# Altium integrated library Altium_SMD_Resister.IntLib: 493 symbols (part 8 of 8)
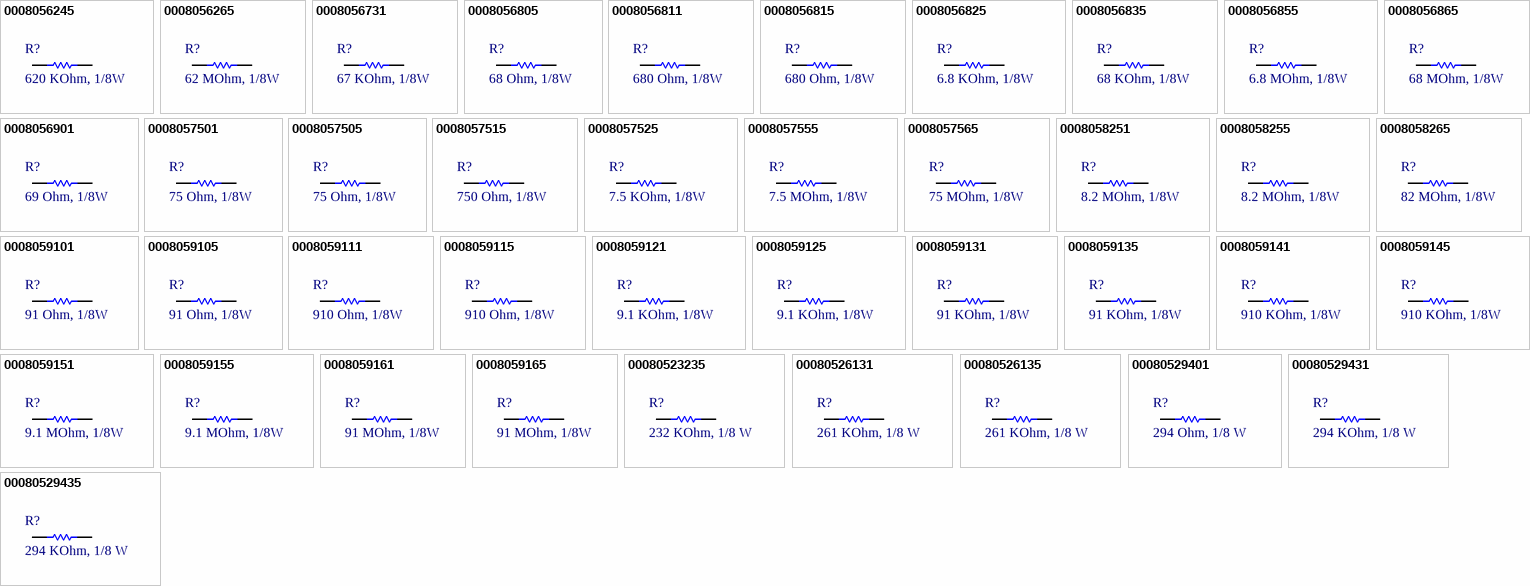
[diagram p19: symbols 0008056245 to 00080529435]

## 0008057505
designator R?, comment 75 Ohm, 1/8W
RES, size 0805, 75 Ohm, 1/8W; Resistance: 75 Ohm; Resistance Tolerance: +/-1%; Size: 0805; Rated Power: 1/8 W; Supplier 1 Name: Mouser; Supplier 1 SN: 603-RC0805JR-0775RL; Supplier 1 URL: https://www.mouser.vn/ProductDetail/YAGEO/RC0805JR-0775RL?qs=fRxXYNj8ftE7wS9ni6fn7Q%3D%3D; Supplier 2 Name: Digi-Key; Supplier 2 SN: 311-75ARTR-ND; Supplier 2 URL: https://www.digikey.com/en/products/detail/yageo/RC0805JR-0775RL/728370; Mounting Technology: SMT; Supplier 3 Name: Thegioiic; Supplier 3 SN: N/A; Supplier 3 URL: N/A; Datasheet: N/A; Manufacture  Name: N/A; Manufacture  SN: N/A; Value: 75 Ohm, 1/8W
footprint RESISTOR_0805 (Chip Resistor, 2-Leads, Body 2,00x1,20mm, IPC Medium Density)
pins: 1, 2

## 0008057515
designator R?, comment 750 Ohm, 1/8W
RES, size 0805, 750 Ohm, 1/8W; Resistance: 750 Ohm; Resistance Tolerance: +/-1%; Size: 0805; Rated Power: 1/8 W; Supplier 1 Name: Mouser; Supplier 1 SN: 603-AC0805JR-07750RL; Supplier 1 URL: https://www.mouser.vn/ProductDetail/YAGEO/AC0805JR-07750RL?qs=TI15CVqcli0njTnSkpn%2FJw%3D%3D; Supplier 2 Name: Digi-Key; Supplier 2 SN: 311-750ARTR-ND; Supplier 2 URL: https://www.digikey.com/en/products/detail/yageo/RC0805JR-07750RL/728368; Mounting Technology: SMT; Supplier 3 Name: Thegioiic; Supplier 3 SN: N/A; Supplier 3 URL: N/A; Datasheet: N/A; Manufacture  Name: N/A; Manufacture  SN: N/A; Value: 750 Ohm, 1/8W
footprint RESISTOR_0805 (Chip Resistor, 2-Leads, Body 2,00x1,20mm, IPC Medium Density)
pins: 1, 2

## 0008057525
designator R?, comment 7.5 KOhm, 1/8W
RES, size 0805, 7.5 KOhm, 1/8W; Resistance Tolerance: +/-1%; Resistance: 7.5 KOhm; Size: 0805; Rated Power: 1/8 W; Supplier 1 Name: Mouser; Supplier 1 SN: 71-CRCW08057K50JNEAC; Supplier 1 URL: https://www.mouser.vn/ProductDetail/Vishay-Dale/CRCW08057K50JNEAC?qs=E3Y5ESvWgWPPvB89PkrkFA%3D%3D; Supplier 2 Name: Digi-Key; Supplier 2 SN: 311-7.5KARTR-ND; Supplier 2 URL: https://www.digikey.com/en/products/detail/yageo/RC0805JR-077K5L/728366; Mounting Technology: SMT; Supplier 3 Name: Thegioiic; Supplier 3 SN: N/A; Supplier 3 URL: N/A; Datasheet: N/A; Manufacture  Name: N/A; Manufacture  SN: N/A; Value: 7.5 KOhm, 1/8W
footprint RESISTOR_0805 (Chip Resistor, 2-Leads, Body 2,00x1,20mm, IPC Medium Density)
pins: 1, 2

## 0008057555
designator R?, comment 7.5 MOhm, 1/8W
RES, size 0805, 7.5 MOhm, 1/8W; Resistance Tolerance: +/-1%; Resistance: 7.5 MOhm; Size: 0805; Rated Power: 1/8 W; Supplier 1 Name: Mouser; Supplier 1 SN: 71-CRCW08057M50JNEA; Supplier 1 URL: https://www.mouser.vn/ProductDetail/Vishay-Dale/CRCW08057M50JNEA?qs=3kMMNJ4TLu3zaDvEVm8fsw%3D%3D; Supplier 2 Name: Digi-Key; Supplier 2 SN: 311-7.5MARTR-ND; Supplier 2 URL: https://www.digikey.com/en/products/detail/yageo/RC0805JR-077M5L/728367; Mounting Technology: SMT; Supplier 3 Name: Thegioiic; Supplier 3 SN: N/A; Supplier 3 URL: N/A; Datasheet: N/A; Manufacture  Name: N/A; Manufacture  SN: N/A; Value: 7.5 MOhm, 1/8W
footprint RESISTOR_0805 (Chip Resistor, 2-Leads, Body 2,00x1,20mm, IPC Medium Density)
pins: 1, 2

## 0008057565
designator R?, comment 75 MOhm, 1/8W
RES, size 0805, 75 MOhm, 1/8W; Resistance: 75 MOhm; Resistance Tolerance: +/-1%; Size: 0805; Rated Power: 1/8 W; Supplier 1 Name: Mouser; Supplier 1 SN: 603-RC0805JR-0775ML; Supplier 1 URL: https://www.mouser.vn/ProductDetail/YAGEO/RC0805JR-0775ML?qs=tggtontpCXNahOr45CxKUg%3D%3D; Supplier 2 Name: Digi-Key; Supplier 2 SN: RC0805JR-0775ML-ND; Supplier 2 URL: https://www.digikey.com/en/products/detail/yageo/RC0805JR-0775ML/5919072; Mounting Technology: SMT; Supplier 3 Name: Thegioiic; Supplier 3 SN: N/A; Supplier 3 URL: N/A; Datasheet: N/A; Manufacture  Name: N/A; Manufacture  SN: N/A; Value: 75 MOhm, 1/8W
footprint RESISTOR_0805 (Chip Resistor, 2-Leads, Body 2,00x1,20mm, IPC Medium Density)
pins: 1, 2

## 0008058251
designator R?, comment 8.2 MOhm, 1/8W
RES, size 0805, 8.2 MOhm, 1/8W; Resistance Tolerance: +/-1%; Resistance: 8.2 MOhm; Size: 0805; Rated Power: 1/8 W; Supplier 1 Name: Mouser; Supplier 1 SN: N/A; Supplier 1 URL: N/A; Supplier 2 Name: Digi-Key; Supplier 2 SN: 13-RC0805FR-078M2LTR-ND; Supplier 2 URL: https://www.digikey.com/en/products/detail/yageo/RC0805FR-078M2L/5919049; Mounting Technology: SMT; Supplier 3 Name: Thegioiic; Supplier 3 SN: N/A; Supplier 3 URL: N/A; Datasheet: N/A; Manufacture  Name: N/A; Manufacture  SN: N/A; Value: 8.2 MOhm, 1/8W
footprint RESISTOR_0805 (Chip Resistor, 2-Leads, Body 2,00x1,20mm, IPC Medium Density)
pins: 1, 2

## 0008058255
designator R?, comment 8.2 MOhm, 1/8W
RES, size 0805, 8.2 MOhm, 1/8W; Resistance Tolerance: +/-1%; Resistance: 8.2 MOhm; Size: 0805; Rated Power: 1/8 W; Supplier 1 Name: Mouser; Supplier 1 SN: 652-CR0805JW-825ELF; Supplier 1 URL: https://www.mouser.vn/ProductDetail/Bourns/CR0805-JW-825ELF?qs=3wWX5hyYeeTFo4Cuu04AFA%3D%3D; Supplier 2 Name: Digi-Key; Supplier 2 SN: 311-8.2MARTR-ND; Supplier 2 URL: https://www.digikey.com/en/products/detail/yageo/RC0805JR-078M2L/728374; Mounting Technology: SMT; Supplier 3 Name: Thegioiic; Supplier 3 SN: N/A; Supplier 3 URL: N/A; Datasheet: N/A; Manufacture  Name: N/A; Manufacture  SN: N/A; Value: 8.2 MOhm, 1/8W
footprint RESISTOR_0805 (Chip Resistor, 2-Leads, Body 2,00x1,20mm, IPC Medium Density)
pins: 1, 2

## 0008058265
designator R?, comment 82 MOhm, 1/8W
RES, size 0805, 82 MOhm, 1/8W; Resistance: 82 MOhm; Resistance Tolerance: +/-1%; Size: 0805; Rated Power: 1/8 W; Supplier 1 Name: Mouser; Supplier 1 SN: 603-RC0805JR-1382ML; Supplier 1 URL: https://www.mouser.vn/ProductDetail/YAGEO/RC0805JR-1382ML?qs=k5Usg7mMyeD4ir7b8mjLXg%3D%3D; Supplier 2 Name: Digi-Key; Supplier 2 SN: 311-75ARTR-ND; Supplier 2 URL: https://www.digikey.com/en/products/detail/yageo/RC0805JR-0775RL/728370; Mounting Technology: SMT; Supplier 3 Name: Thegioiic; Supplier 3 SN: N/A; Supplier 3 URL: N/A; Datasheet: N/A; Manufacture  Name: N/A; Manufacture  SN: N/A; Value: 82 MOhm, 1/8W
footprint RESISTOR_0805 (Chip Resistor, 2-Leads, Body 2,00x1,20mm, IPC Medium Density)
pins: 1, 2

## 0008059101
designator R?, comment 91 Ohm, 1/8W
RES, size 0805, 91 Ohm, 1/8W; Resistance: 91 Ohm; Resistance Tolerance: +/-1%; Size: 0805; Rated Power: 1/8 W; Supplier 1 Name: Mouser; Supplier 1 SN: 603-RC0805FR-0791RL; Supplier 1 URL: https://www.mouser.vn/ProductDetail/YAGEO/RC0805FR-0791RL?qs=g6xwsc4j%252B%2Fp%2FT%2FNAjeTsEA%3D%3D; Supplier 2 Name: Digi-Key; Supplier 2 SN: 311-91.0CRTR-ND; Supplier 2 URL: https://www.digikey.com/en/products/detail/yageo/RC0805FR-0791RL/728201; Mounting Technology: SMT; Supplier 3 Name: Thegioiic; Supplier 3 SN: N/A; Supplier 3 URL: N/A; Datasheet: N/A; Manufacture  Name: N/A; Manufacture  SN: N/A; Value: 91 Ohm, 1/8W
footprint RESISTOR_0805 (Chip Resistor, 2-Leads, Body 2,00x1,20mm, IPC Medium Density)
pins: 1, 2

## 0008059105
designator R?, comment 91 Ohm, 1/8W
RES, size 0805, 91 Ohm, 1/8W; Resistance: 91 Ohm; Resistance Tolerance: +/-1%; Size: 0805; Rated Power: 1/8 W; Supplier 1 Name: Mouser; Supplier 1 SN: 603-RC0805JR-0791RL; Supplier 1 URL: https://www.mouser.vn/ProductDetail/YAGEO/RC0805JR-0791RL?qs=fRxXYNj8ftF6WLOxKQFHYw%3D%3D; Supplier 2 Name: Digi-Key; Supplier 2 SN: 311-91ARTR-ND; Supplier 2 URL: https://www.digikey.com/en/products/detail/yageo/RC0805JR-0791RL/728384; Mounting Technology: SMT; Supplier 3 Name: Thegioiic; Supplier 3 SN: N/A; Supplier 3 URL: N/A; Datasheet: N/A; Manufacture  Name: N/A; Manufacture  SN: N/A; Value: 91 Ohm, 1/8W
footprint RESISTOR_0805 (Chip Resistor, 2-Leads, Body 2,00x1,20mm, IPC Medium Density)
pins: 1, 2

## 0008059111
designator R?, comment 910 Ohm, 1/8W
RES, size 0805, 910 Ohm, 1/8W; Resistance: 910 Ohm; Resistance Tolerance: +/-1%; Size: 0805; Rated Power: 1/8 W; Supplier 1 Name: Mouser; Supplier 1 SN: 603-RC0805FR-07910RL; Supplier 1 URL: https://www.mouser.vn/ProductDetail/YAGEO/RC0805FR-07910RL?qs=g6xwsc4j%252B%2FoZ2NamZOKACA%3D%3D; Supplier 2 Name: Digi-Key; Supplier 2 SN: 311-910CRTR-ND; Supplier 2 URL: https://www.digikey.com/en/products/detail/yageo/RC0805FR-07910RL/728203; Mounting Technology: SMT; Supplier 3 Name: Thegioiic; Supplier 3 SN: N/A; Supplier 3 URL: N/A; Datasheet: N/A; Manufacture  Name: N/A; Manufacture  SN: N/A; Value: 910 Ohm, 1/8W
footprint RESISTOR_0805 (Chip Resistor, 2-Leads, Body 2,00x1,20mm, IPC Medium Density)
pins: 1, 2

## 0008059115
designator R?, comment 910 Ohm, 1/8W
RES, size 0805, 910 Ohm, 1/8W; Resistance: 910 Ohm; Resistance Tolerance: +/-1%; Size: 0805; Rated Power: 1/8 W; Supplier 1 Name: Mouser; Supplier 1 SN: 603-AC0805JR-07910RL; Supplier 1 URL: https://www.mouser.vn/ProductDetail/YAGEO/AC0805JR-07910RL?qs=TI15CVqcli02BUmvoruq%252BQ%3D%3D; Supplier 2 Name: Digi-Key; Supplier 2 SN: 311-910ARTR-ND; Supplier 2 URL: https://www.digikey.com/en/products/detail/yageo/RC0805JR-07910RL/728382; Mounting Technology: SMT; Supplier 3 Name: Thegioiic; Supplier 3 SN: N/A; Supplier 3 URL: N/A; Datasheet: N/A; Manufacture  Name: N/A; Manufacture  SN: N/A; Value: 910 Ohm, 1/8W
footprint RESISTOR_0805 (Chip Resistor, 2-Leads, Body 2,00x1,20mm, IPC Medium Density)
pins: 1, 2

## 0008059121
designator R?, comment 9.1 KOhm, 1/8W
RES, size 0805, 9.1 KOhm, 1/8W; Resistance Tolerance: +/-1%; Resistance: 9.1 KOhm; Size: 0805; Rated Power: 1/8 W; Supplier 1 Name: Mouser; Supplier 1 SN: 603-RC0805FR-079K1L; Supplier 1 URL: https://www.mouser.vn/ProductDetail/YAGEO/RC0805FR-079K1L?qs=g6xwsc4j%252B%2Fompd1tn2M1hA%3D%3D; Supplier 2 Name: Digi-Key; Supplier 2 SN: 311-9.10KCRTR-ND; Supplier 2 URL: https://www.digikey.com/en/products/detail/yageo/RC0805FR-079K1L/728187; Mounting Technology: SMT; Supplier 3 Name: Thegioiic; Supplier 3 SN: N/A; Supplier 3 URL: N/A; Datasheet: N/A; Manufacture  Name: N/A; Manufacture  SN: N/A; Value: 9.1 KOhm, 1/8W
footprint RESISTOR_0805 (Chip Resistor, 2-Leads, Body 2,00x1,20mm, IPC Medium Density)
pins: 1, 2

## 0008059125
designator R?, comment 9.1 KOhm, 1/8W
RES, size 0805, 9.1 KOhm, 1/8W; Resistance Tolerance: +/-1%; Resistance: 9.1 KOhm; Size: 0805; Rated Power: 1/8 W; Supplier 1 Name: Mouser; Supplier 1 SN: 603-AC0805JR-079K1L; Supplier 1 URL: https://www.mouser.vn/ProductDetail/YAGEO/AC0805JR-079K1L?qs=TI15CVqcli3%252BCLfrVXRk8g%3D%3D; Supplier 2 Name: Digi-Key; Supplier 2 SN: 311-9.1KARTR-ND; Supplier 2 URL: https://www.digikey.com/en/products/detail/yageo/RC0805JR-079K1L/728380; Mounting Technology: SMT; Supplier 3 Name: Thegioiic; Supplier 3 SN: N/A; Supplier 3 URL: N/A; Datasheet: N/A; Manufacture  Name: N/A; Manufacture  SN: N/A; Value: 9.1 KOhm, 1/8W
footprint RESISTOR_0805 (Chip Resistor, 2-Leads, Body 2,00x1,20mm, IPC Medium Density)
pins: 1, 2

## 0008059131
designator R?, comment 91 KOhm, 1/8W
RES, size 0805, 91 KOhm, 1/8W; Resistance: 91 KOhm; Resistance Tolerance: +/-1%; Size: 0805; Rated Power: 1/8 W; Supplier 1 Name: Mouser; Supplier 1 SN: 603-RC0805FR-0791KL; Supplier 1 URL: https://www.mouser.vn/ProductDetail/YAGEO/RC0805FR-0791KL?qs=cW1D1cnQQSoc5AvjL32TnA%3D%3D; Supplier 2 Name: Digi-Key; Supplier 2 SN: 311-91.0KCRTR-ND; Supplier 2 URL: https://www.digikey.com/en/products/detail/yageo/RC0805FR-0791KL/728202; Mounting Technology: SMT; Supplier 3 Name: Thegioiic; Supplier 3 SN: N/A; Supplier 3 URL: N/A; Datasheet: N/A; Manufacture  Name: N/A; Manufacture  SN: N/A; Value: 91 KOhm, 1/8W
footprint RESISTOR_0805 (Chip Resistor, 2-Leads, Body 2,00x1,20mm, IPC Medium Density)
pins: 1, 2

## 0008059135
designator R?, comment 91 KOhm, 1/8W
RES, size 0805, 91 KOhm, 1/8W; Resistance: 91 KOhm; Resistance Tolerance: +/-1%; Size: 0805; Rated Power: 1/8 W; Supplier 1 Name: Mouser; Supplier 1 SN: 603-RC0805JR-0791KL; Supplier 1 URL: https://www.mouser.vn/ProductDetail/YAGEO/RC0805JR-0791KL?qs=fRxXYNj8ftGTTnZSFO4FNg%3D%3D; Supplier 2 Name: Digi-Key; Supplier 2 SN: 311-91KARTR-ND; Supplier 2 URL: https://www.digikey.com/en/products/detail/yageo/RC0805JR-0791KL/728385; Mounting Technology: SMT; Supplier 3 Name: Thegioiic; Supplier 3 SN: N/A; Supplier 3 URL: N/A; Datasheet: N/A; Manufacture  Name: N/A; Manufacture  SN: N/A; Value: 91 KOhm, 1/8W
footprint RESISTOR_0805 (Chip Resistor, 2-Leads, Body 2,00x1,20mm, IPC Medium Density)
pins: 1, 2

## 0008059141
designator R?, comment 910 KOhm, 1/8W
RES, size 0805, 910 KOhm, 1/8W; Resistance Tolerance: +/-1%; Resistance: 910 KOhm; Size: 0805; Rated Power: 1/8 W; Supplier 1 Name: Mouser; Supplier 1 SN: 603-AC0805FR-07910KL; Supplier 1 URL: https://www.mouser.vn/ProductDetail/YAGEO/AC0805FR-07910KL?qs=yhV1fb9g%2FKZRLhn2XxrNIw%3D%3D; Supplier 2 Name: Digi-Key; Supplier 2 SN: YAG3336TR-ND; Supplier 2 URL: https://www.digikey.com/en/products/detail/yageo/RC0805FR-07910KL/5281196; Mounting Technology: SMT; Supplier 3 Name: Thegioiic; Supplier 3 SN: N/A; Supplier 3 URL: N/A; Datasheet: N/A; Manufacture  Name: N/A; Manufacture  SN: N/A; Value: 910 KOhm, 1/8W
footprint RESISTOR_0805 (Chip Resistor, 2-Leads, Body 2,00x1,20mm, IPC Medium Density)
pins: 1, 2

## 0008059145
designator R?, comment 910 KOhm, 1/8W
RES, size 0805, 910 KOhm, 1/8W; Resistance Tolerance: +/-1%; Resistance: 910 KOhm; Size: 0805; Rated Power: 1/8 W; Supplier 1 Name: Mouser; Supplier 1 SN: 603-RC0805JR-07910KL; Supplier 1 URL: https://www.mouser.vn/ProductDetail/YAGEO/RC0805JR-07910KL?qs=B2whAOG%252BauuorO0T2jryyw%3D%3D; Supplier 2 Name: Digi-Key; Supplier 2 SN: 311-910KARTR-ND; Supplier 2 URL: https://www.digikey.com/en/products/detail/yageo/RC0805JR-07910KL/728383; Mounting Technology: SMT; Supplier 3 Name: Thegioiic; Supplier 3 SN: N/A; Supplier 3 URL: N/A; Datasheet: N/A; Manufacture  Name: N/A; Manufacture  SN: N/A; Value: 910 KOhm, 1/8W
footprint RESISTOR_0805 (Chip Resistor, 2-Leads, Body 2,00x1,20mm, IPC Medium Density)
pins: 1, 2

## 0008059151
designator R?, comment 9.1 MOhm, 1/8W
RES, size 0805, 9.1 MOhm, 1/8W; Resistance Tolerance: +/-1%; Resistance: 9.1 MOhm; Size: 0805; Rated Power: 1/8 W; Supplier 1 Name: Mouser; Supplier 1 SN: 603-RC0805FR-079M1L; Supplier 1 URL: https://www.mouser.vn/ProductDetail/YAGEO/RC0805FR-079M1L?qs=g6xwsc4j%252B%2FrtXMerMKdI0g%3D%3D; Supplier 2 Name: Digi-Key; Supplier 2 SN: RHM9.10MAHTR-ND; Supplier 2 URL: https://www.digikey.com/en/products/detail/rohm-semiconductor/KTR10EZPF9104/1983679; Mounting Technology: SMT; Supplier 3 Name: Thegioiic; Supplier 3 SN: N/A; Supplier 3 URL: N/A; Datasheet: N/A; Manufacture  Name: N/A; Manufacture  SN: N/A; Value: 9.1 MOhm, 1/8W
footprint RESISTOR_0805 (Chip Resistor, 2-Leads, Body 2,00x1,20mm, IPC Medium Density)
pins: 1, 2

## 0008059155
designator R?, comment 9.1 MOhm, 1/8W
RES, size 0805, 9.1 MOhm, 1/8W; Resistance Tolerance: +/-1%; Resistance: 9.1 MOhm; Size: 0805; Rated Power: 1/8 W; Supplier 1 Name: Mouser; Supplier 1 SN: 603-RC0805JR-079M1L; Supplier 1 URL: https://www.mouser.vn/ProductDetail/YAGEO/RC0805JR-079M1L?qs=B2whAOG%252BauuKo2DW2PzpJg%3D%3D; Supplier 2 Name: Digi-Key; Supplier 2 SN: 311-9.1MARTR-ND; Supplier 2 URL: https://www.digikey.com/en/products/detail/yageo/RC0805JR-079M1L/728381; Mounting Technology: SMT; Supplier 3 Name: Thegioiic; Supplier 3 SN: N/A; Supplier 3 URL: N/A; Datasheet: N/A; Manufacture  Name: N/A; Manufacture  SN: N/A; Value: 9.1 MOhm, 1/8W
footprint RESISTOR_0805 (Chip Resistor, 2-Leads, Body 2,00x1,20mm, IPC Medium Density)
pins: 1, 2

## 0008059161
designator R?, comment 91 MOhm, 1/8W
RES, size 0805, 91 MOhm, 1/8W; Resistance: 91 MOhm; Resistance Tolerance: +/-1%; Size: 0805; Rated Power: 1/8 W; Supplier 1 Name: Mouser; Supplier 1 SN: 303-0805W8F9105T5E; Supplier 1 URL: https://www.mouser.vn/ProductDetail/Royalohm/0805W8F9105T5E?qs=e8oIoAS2J1SVpTnndLrZmw%3D%3D; Supplier 2 Name: Digi-Key; Supplier 2 SN: N/A; Supplier 2 URL: N/A; Mounting Technology: SMT; Supplier 3 Name: Thegioiic; Supplier 3 SN: N/A; Supplier 3 URL: N/A; Datasheet: N/A; Manufacture  Name: N/A; Manufacture  SN: N/A; Value: 91 MOhm, 1/8W
footprint RESISTOR_0805 (Chip Resistor, 2-Leads, Body 2,00x1,20mm, IPC Medium Density)
pins: 1, 2

## 0008059165
designator R?, comment 91 MOhm, 1/8W
RES, size 0805, 91 MOhm, 1/8W; Resistance: 91 MOhm; Resistance Tolerance: +/-1%; Size: 0805; Rated Power: 1/8 W; Supplier 1 Name: Mouser; Supplier 1 SN: 603-RC0805JR-0791ML; Supplier 1 URL: https://www.mouser.vn/ProductDetail/YAGEO/RC0805JR-0791ML?qs=tggtontpCXPIeRGuu%252Bjt0g%3D%3D; Supplier 2 Name: Digi-Key; Supplier 2 SN: RC0805JR-0791ML-ND; Supplier 2 URL: https://www.digikey.com/en/products/detail/yageo/RC0805JR-0791ML/5919074; Mounting Technology: SMT; Supplier 3 Name: Thegioiic; Supplier 3 SN: N/A; Supplier 3 URL: N/A; Datasheet: N/A; Manufacture  Name: N/A; Manufacture  SN: N/A; Value: 91 MOhm, 1/8W
footprint RESISTOR_0805 (Chip Resistor, 2-Leads, Body 2,00x1,20mm, IPC Medium Density)
pins: 1, 2

## 00080523235
designator R?, comment 232 KOhm, 1/8 W
RES, size 0805, 232 KOhm, 1/8 W; Manufacture  Name: Welwyn Components / TT Electronics; Manufacture  SN: LHVC0805-232KJT5; Resistance tolerance: +/-5%; Rated Power: 1/8 W; Size: 0805; Mounting Technology: SMT; Datasheet: https://www.ttelectronics.com/TTElectronics/media/ProductFiles/Datasheets/LHVC.pdf; Resistance: 232 KOhm; Supplier 1 Name: Mouser; Supplier 1 SN: 756-LHVC0805-232KJT5; Supplier 1 URL: https://www.mouser.vn/ProductDetail/Welwyn-Components-TT-Electronics/LHVC0805-232KJT5?qs=GY4PX5ytnAjQQPp7mjLUUQ%3D%3D; Supplier 2 Name: Digi-Key; Supplier 2 SN: N/A; Supplier 2 URL: N/A; Supplier 3 Name: Thegioiic; Supplier 3 SN: N/A; Supplier 3 URL: N/A; Value: 232 KOhm, 1/8 W
footprint RESISTOR_0805 (Chip Resistor, 2-Leads, Body 2,00x1,20mm, IPC Medium Density)
pins: 1, 2

## 00080526131
designator R?, comment 261 KOhm, 1/8 W
RES, size 0805, 261 KOhm, 1/8 W; Manufacture  Name: Bourns; Manufacture  SN: CR0805-FX-2613ELF; Resistance tolerance: +/-1%; Rated Power: 1/8 W; Size: 0805; Mounting Technology: SMT; Datasheet: https://www.mouser.vn/datasheet/2/54/cr-1858361.pdf; Resistance: 261 KOhm; Supplier 1 Name: Mouser; Supplier 1 SN: 652-CR0805FX-2613ELF; Supplier 1 URL: https://www.mouser.vn/ProductDetail/Bourns/CR0805-FX-2613ELF?qs=4vGXhLEMbUxDnPXNgaMzmw%3D%3D; Supplier 2 Name: Digi-Key; Supplier 2 SN: 118-CR0805-FX-2613ELFTR-ND - Tape & Reel (TR); Supplier 2 URL: https://www.digikey.com/en/products/detail/bourns-inc/CR0805-FX-2613ELF/3784800; Supplier 3 Name: Thegioiic; Supplier 3 SN: N/A; Supplier 3 URL: N/A; Value: 261 KOhm, 1/8 W
footprint RESISTOR_0805 (Chip Resistor, 2-Leads, Body 2,00x1,20mm, IPC Medium Density)
pins: 1, 2

## 00080526135
designator R?, comment 261 KOhm, 1/8 W
RES, size 0805, 261 KOhm, 1/8 W; Manufacture  Name: Welwyn Components / TT Electronics; Manufacture  SN: LHVC0805-261KJT5; Resistance tolerance: +/-5%; Rated Power: 1/8 W; Size: 0805; Mounting Technology: SMT; Datasheet: https://www.ttelectronics.com/TTElectronics/media/ProductFiles/Datasheets/LHVC.pdf; Resistance: 261 KOhm; Supplier 1 Name: Mouser; Supplier 1 SN: 756-LHVC0805-261KJT5; Supplier 1 URL: https://www.mouser.vn/ProductDetail/Welwyn-Components-TT-Electronics/LHVC0805-261KJT5?qs=GY4PX5ytnAhEaqCyRTPbhQ%3D%3D; Supplier 2 Name: Digi-Key; Supplier 2 SN: N/A; Supplier 2 URL: N/A; Supplier 3 Name: Thegioiic; Supplier 3 SN: N/A; Supplier 3 URL: N/A; Value: 261 KOhm, 1/8 W
footprint RESISTOR_0805 (Chip Resistor, 2-Leads, Body 2,00x1,20mm, IPC Medium Density)
pins: 1, 2

## 00080529401
designator R?, comment 294 Ohm, 1/8 W
RES, size 0805, 294 Ohm, 1/8 W; Manufacture  Name: Panasonic; Manufacture  SN: ERJ-6ENF2940V; Resistance tolerance: +/-1%; Rated Power: 1/8 W; Resistance: 294 Ohm; Size: 0805; Mounting Technology: SMT; Datasheet: https://www.mouser.vn/datasheet/2/315/AOA0000C304-1149620.pdf; Supplier 1 Name: Mouser; Supplier 1 SN: 667-ERJ-6ENF2940V; Supplier 1 URL: https://www.mouser.vn/ProductDetail/Panasonic/ERJ-6ENF2940V?qs=50QC8w71jAvukmJpZ9Lw1g%3D%3D; Supplier 2 Name: Digi-Key; Supplier 2 SN: P294CTR-ND - Tape & Reel (TR); Supplier 2 URL: https://www.digikey.com/en/products/detail/panasonic-electronic-components/ERJ-6ENF2940V/111179; Supplier 3 Name: Thegioiic; Supplier 3 SN: N/A; Supplier 3 URL: N/A; Value: 294 Ohm, 1/8 W
footprint RESISTOR_0805 (Chip Resistor, 2-Leads, Body 2,00x1,20mm, IPC Medium Density)
pins: 1, 2

## 00080529431
designator R?, comment 294 KOhm, 1/8 W
RES, size 0805, 294 KOhm, 1/8 W; Manufacture  Name: Bourns; Manufacture  SN: CR0805-FX-2943ELF; Resistance tolerance: +/-1%; Rated Power: 1/8 W; Size: 0805; Mounting Technology: SMT; Datasheet: https://www.mouser.vn/datasheet/2/54/cr-1858361.pdf; Resistance: 294 KOhm; Supplier 1 Name: Mouser; Supplier 1 SN: 652-CR0805FX-2943ELF; Supplier 1 URL: https://www.mouser.vn/ProductDetail/YAGEO/AC0805FR-07261RL?qs=UBLIud9aIG3KLDcxZj7pBg%3D%3D; Supplier 2 Name: Digi-Key; Supplier 2 SN: 118-CR0805-FX-2943ELFTR-ND - Tape & Reel (TR); Supplier 2 URL: https://www.digikey.com/en/products/detail/bourns-inc/CR0805-FX-2943ELF/3784832; Supplier 3 Name: Thegioiic; Supplier 3 SN: N/A; Supplier 3 URL: N/A; Value: 294 KOhm, 1/8 W
footprint RESISTOR_0805 (Chip Resistor, 2-Leads, Body 2,00x1,20mm, IPC Medium Density)
pins: 1, 2

## 00080529435
designator R?, comment 294 KOhm, 1/8 W
RES, size 0805, 294 KOhm, 1/8 W; Manufacture  Name: Welwyn Components / TT Electronics; Manufacture  SN: LHVC0805-294KJT5; Resistance tolerance: +/-5%; Rated Power: 1/8 W; Size: 0805; Mounting Technology: SMT; Datasheet: https://www.ttelectronics.com/TTElectronics/media/ProductFiles/Datasheets/LHVC.pdf; Resistance: 294 KOhm; Supplier 1 Name: Mouser; Supplier 1 SN: 756-LHVC0805-294KJT5; Supplier 1 URL: https://www.mouser.vn/ProductDetail/Welwyn-Components-TT-Electronics/LHVC0805-294KJT5?qs=GY4PX5ytnAjG5%252BRJuXIg7w%3D%3D; Supplier 2 Name: Digi-Key; Supplier 2 SN: N/A; Supplier 2 URL: N/A; Supplier 3 Name: Thegioiic; Supplier 3 SN: N/A; Supplier 3 URL: N/A; Value: 294 KOhm, 1/8 W
footprint RESISTOR_0805 (Chip Resistor, 2-Leads, Body 2,00x1,20mm, IPC Medium Density)
pins: 1, 2

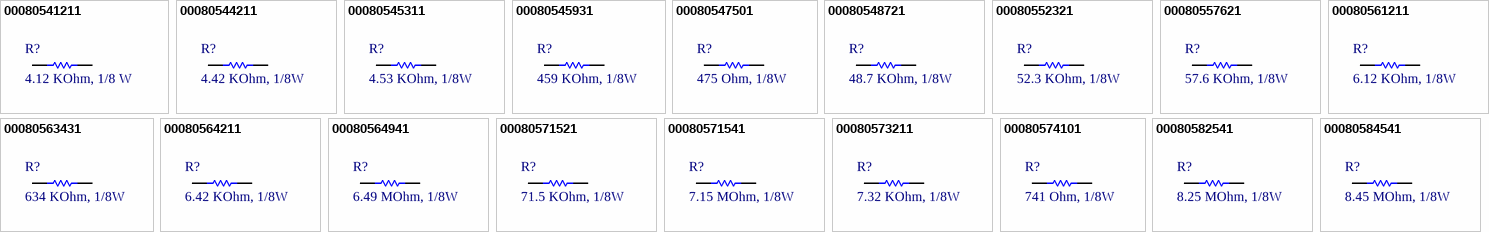
[diagram p12: symbols 00080541211 to 00080584541]

## 00080541211
designator R?, comment 4.12 KOhm, 1/8 W
RES, size 0805, 4.12 KOhm, 1/8 W; Manufacture  Name: Panasonic; Manufacture  SN: ERJ-U06F4121V; Resistance tolerance: +/-1%; Rated Power: 1/8 W; Size: 0805; Mounting Technology: SMT; Datasheet: https://www.mouser.vn/datasheet/2/315/AOA0000C334-1314047.pdf; Resistance: 4.12 KOhm; Supplier 1 Name: Mouser; Supplier 1 SN: 667-ERJ-U06F4121V; Supplier 1 URL: https://www.mouser.vn/ProductDetail/Panasonic/ERJ-U06F4121V?qs=Yyy8avaXlIsQpLxN%2Fe1aQA%3D%3D; Supplier 2 Name: Digi-Key; Supplier 2 SN: P4.12KCTR-ND - Tape & Reel (TR); Supplier 2 URL: https://www.digikey.com/en/products/detail/panasonic-electronic-components/ERJ-6ENF4121V/111401; Supplier 3 Name: Thegioiic; Supplier 3 SN: N/A; Supplier 3 URL: N/A; Value: 4.12 KOhm, 1/8 W
footprint RESISTOR_0805 (Chip Resistor, 2-Leads, Body 2,00x1,20mm, IPC Medium Density)
pins: 1, 2

## 00080544211
designator R?, comment 4.42 KOhm, 1/8W
RES, size 0805, 4.42 KOhm, 1/8W; Resistance Tolerance: +/-1%; Resistance: 4.42 KOhm; Size: 0805; Rated Power: 1/8 W; Supplier 1 Name: Mouser; Supplier 1 SN: 652-CR0805FX-4421ELF; Supplier 1 URL: https://www.mouser.vn/ProductDetail/Bourns/CR0805-FX-4421ELF?qs=sGAEpiMZZMtG0KNrPCHnjfC2zYK6Lg3%2FrXlYMryvIvo%3D; Supplier 2 Name: Digi-Key; Supplier 2 SN: 311-4.42KCRDKR-ND; Supplier 2 URL: https://www.digikey.com/en/products/detail/yageo/RC0805FR-074K42L/727920; Supplier 3 Name: Thegioiic; Supplier 3 SN: N/A; Supplier 3 URL: https://www.thegioiic.com/dien-tro-44-2-kohm-0805-1; Mounting Technology: SMT; Datasheet: N/A; Manufacture  Name: N/A; Manufacture  SN: N/A; Value: 4.42 KOhm, 1/8W
footprint RESISTOR_0805 (Chip Resistor, 2-Leads, Body 2,00x1,20mm, IPC Medium Density)
pins: 1, 2

## 00080545311
designator R?, comment 4.53 KOhm, 1/8W
RES, size 0805, 4.53 KOhm, 1/8W; Resistance Tolerance: +/-1%; Resistance: 4.53 KOhm; Size: 0805; Rated Power: 1/8 W; Supplier 1 Name: Mouser; Supplier 1 SN: 652-CR0805FX-4532ELF; Supplier 1 URL: https://www.mouser.vn/ProductDetail/Bourns/CR0805-FX-4532ELF?qs=sGAEpiMZZMtG0KNrPCHnjfC2zYK6Lg3%2F1%2Fel6VE8vT0%3D; Supplier 2 Name: Digi-Key; Supplier 2 SN: 311-45.3KCRDKR-ND; Supplier 2 URL: https://www.digikey.com/en/products/detail/yageo/RC0805FR-0745K3L/727965; Mounting Technology: SMT; Supplier 3 Name: Thegioiic; Supplier 3 SN: N/A; Supplier 3 URL: N/A; Datasheet: N/A; Manufacture  Name: N/A; Manufacture  SN: N/A; Value: 4.53 KOhm, 1/8W
footprint RESISTOR_0805 (Chip Resistor, 2-Leads, Body 2,00x1,20mm, IPC Medium Density)
pins: 1, 2

## 00080545931
designator R?, comment 459 KOhm, 1/8W
RES, size 0805, 459 KOhm, 1/8W; Resistance Tolerance: +/-1%; Resistance: 459 KOhm; Size: 0805; Rated Power: 1/8 W; Supplier 1 Name: Mouser; Supplier 1 SN: N/A; Supplier 1 URL: N/A; Supplier 2 Name: Digi-Key; Supplier 2 SN: RMCF0805FT4K30DKR-ND; Supplier 2 URL: https://www.digikey.com/en/products/detail/stackpole-electronics-inc/RMCF0805FT4K30/1760198; Mounting Technology: SMT; Supplier 3 Name: Thegioiic; Supplier 3 SN: N/A; Supplier 3 URL: N/A; Datasheet: N/A; Manufacture  Name: N/A; Manufacture  SN: N/A; Value: 459 KOhm, 1/8W
footprint RESISTOR_0805 (Chip Resistor, 2-Leads, Body 2,00x1,20mm, IPC Medium Density)
pins: 1, 2

## 00080547501
designator R?, comment 475 Ohm, 1/8W
RES, size 0805, 475 Ohm, 1/8W; Resistance: 475 Ohm; Resistance Tolerance: +/-1%; Size: 0805; Rated Power: 1/8 W; Supplier 1 Name: Mouser; Supplier 1 SN: 660-RK73G2ARTTD4750F; Supplier 1 URL: https://www.mouser.vn/ProductDetail/KOA-Speer/RK73G2ARTTD4750F?qs=sGAEpiMZZMtG0KNrPCHnjRpfexHZHoPICGbTAoMU%2F0TGfwzA89isyQ%3D%3D; Supplier 2 Name: Digi-Key; Supplier 2 SN: 311-475CRDKR-ND; Supplier 2 URL: https://www.digikey.com/en/products/detail/yageo/RC0805FR-07475RL/727978; Mounting Technology: SMT; Supplier 3 Name: Thegioiic; Supplier 3 SN: N/A; Supplier 3 URL: N/A; Datasheet: N/A; Manufacture  Name: N/A; Manufacture  SN: N/A; Value: 475 Ohm, 1/8W
footprint RESISTOR_0805 (Chip Resistor, 2-Leads, Body 2,00x1,20mm, IPC Medium Density)
pins: 1, 2

## 00080548721
designator R?, comment 48.7 KOhm, 1/8W
RES, size 0805, 48.7 KOhm, 1/8W; Resistance Tolerance: +/-1%; Resistance: 48.7 KOhm; Size: 0805; Rated Power: 1/8 W; Supplier 1 Name: Mouser; Supplier 1 SN: 652-CR0805FX-4872ELF; Supplier 1 URL: https://www.mouser.vn/ProductDetail/Bourns/CR0805-FX-4872ELF?qs=sGAEpiMZZMtlubZbdhIBIL%252BKkaYz7rs3OXEDnL6C198%3D; Supplier 2 Name: Digi-Key; Supplier 2 SN: P48.7KCDKR-ND; Supplier 2 URL: https://www.digikey.com/en/products/detail/panasonic-electronic-components/ERJ-6ENF4872V/111609; Mounting Technology: SMT; Supplier 3 Name: Thegioiic; Supplier 3 SN: N/A; Supplier 3 URL: N/A; Datasheet: N/A; Manufacture  Name: N/A; Manufacture  SN: N/A; Value: 48.7 KOhm, 1/8W
footprint RESISTOR_0805 (Chip Resistor, 2-Leads, Body 2,00x1,20mm, IPC Medium Density)
pins: 1, 2

## 00080552321
designator R?, comment 52.3 KOhm, 1/8W
RES, size 0805, 52.3 KOhm, 1/8W; Resistance Tolerance: +/-1%; Resistance: 52.3 KOhm; Size: 0805; Rated Power: 1/8 W; Supplier 1 Name: Mouser; Supplier 1 SN: 667-ERJ-6ENF5232V; Supplier 1 URL: https://www.mouser.vn/ProductDetail/Panasonic/ERJ-6ENF5232V?qs=sGAEpiMZZMtlubZbdhIBIGigBIB3A6R9zBn5%252BDYL6RA%3D; Supplier 2 Name: Digi-Key; Supplier 2 SN: 311-52.3KCRDKR-ND; Supplier 2 URL: https://www.digikey.com/en/products/detail/yageo/RC0805FR-0752K3L/728021; Mounting Technology: SMT; Supplier 3 Name: Thegioiic; Supplier 3 SN: N/A; Supplier 3 URL: N/A; Datasheet: N/A; Manufacture  Name: N/A; Manufacture  SN: N/A; Value: 52.3 KOhm, 1/8W
footprint RESISTOR_0805 (Chip Resistor, 2-Leads, Body 2,00x1,20mm, IPC Medium Density)
pins: 1, 2

## 00080557621
designator R?, comment 57.6 KOhm, 1/8W
RES, size 0805, 57.6 KOhm, 1/8W; Resistance Tolerance: +/-1%; Resistance: 57.6 KOhm; Size: 0805; Rated Power: 1/8 W; Supplier 1 Name: Mouser; Supplier 1 SN: 667-ERJ-6ENF5762V; Supplier 1 URL: https://www.mouser.vn/ProductDetail/Panasonic/ERJ-6ENF5762V?qs=sGAEpiMZZMtlubZbdhIBIGigBIB3A6R9NhH0M6W9sy4%3D; Supplier 2 Name: Digi-Key; Supplier 2 SN: 311-57.6KCRDKR-ND; Supplier 2 URL: https://www.digikey.com/en/products/detail/yageo/RC0805FR-0757K6L/728041; Mounting Technology: SMT; Supplier 3 Name: Thegioiic; Supplier 3 SN: N/A; Supplier 3 URL: N/A; Datasheet: N/A; Manufacture  Name: N/A; Manufacture  SN: N/A; Value: 57.6 KOhm, 1/8W
footprint RESISTOR_0805 (Chip Resistor, 2-Leads, Body 2,00x1,20mm, IPC Medium Density)
pins: 1, 2

## 00080561211
designator R?, comment 6.12 KOhm, 1/8W
RES, size 0805, 6.12 KOhm, 1/8W; Resistance Tolerance: +/-1%; Resistance: 6.12 KOhm; Size: 0805; Rated Power: 1/8 W; Supplier 1 Name: Mouser; Supplier 1 SN: N/A; Supplier 1 URL: N/A; Supplier 2 Name: Digi-Key; Supplier 2 SN: 2019-RN73R2ATTD6121F25TR-ND; Supplier 2 URL: https://www.digikey.com/en/products/detail/koa-speer-electronics-inc/RN73R2ATTD6121F25/10035242; Mounting Technology: SMT; Supplier 3 Name: Thegioiic; Supplier 3 SN: N/A; Supplier 3 URL: N/A; Datasheet: N/A; Manufacture  Name: N/A; Manufacture  SN: N/A; Value: 6.12 KOhm, 1/8W
footprint RESISTOR_0805 (Chip Resistor, 2-Leads, Body 2,00x1,20mm, IPC Medium Density)
pins: 1, 2

## 00080563431
designator R?, comment 634 KOhm, 1/8W
RES, size 0805, 634 KOhm, 1/8W; Resistance Tolerance: +/-1%; Resistance: 634 KOhm; Size: 0805; Rated Power: 1/8 W; Supplier 1 Name: Mouser; Supplier 1 SN: 603-RT0805FRE07634KL; Supplier 1 URL: https://www.mouser.vn/ProductDetail/YAGEO/RT0805FRE07634KL?qs=4CyHz7GXqSgfSiXMWNQNIg%3D%3D; Supplier 2 Name: Digi-Key; Supplier 2 SN: 311-634KCRTR-ND; Supplier 2 URL: https://www.digikey.com/en/products/detail/yageo/RC0805FR-07634KL/728088; Mounting Technology: SMT; Supplier 3 Name: Thegioiic; Supplier 3 SN: N/A; Supplier 3 URL: N/A; Datasheet: N/A; Manufacture  Name: N/A; Manufacture  SN: N/A; Value: 634 KOhm, 1/8W
footprint RESISTOR_0805 (Chip Resistor, 2-Leads, Body 2,00x1,20mm, IPC Medium Density)
pins: 1, 2

## 00080564211
designator R?, comment 6.42 KOhm, 1/8W
RES, size 0805, 6.42 KOhm, 1/8W; Resistance Tolerance: +/-1%; Resistance: 6.42 KOhm; Size: 0805; Rated Power: 1/8 W; Supplier 1 Name: Mouser; Supplier 1 SN: N/A; Supplier 1 URL: N/A; Supplier 2 Name: Digi-Key; Supplier 2 SN: 2019-RN73R2ATTD6421F100TR-ND; Supplier 2 URL: https://www.digikey.com/en/products/detail/koa-speer-electronics-inc/RN73R2ATTD6421F100/10035641; Mounting Technology: SMT; Supplier 3 Name: Thegioiic; Supplier 3 SN: N/A; Supplier 3 URL: N/A; Datasheet: N/A; Manufacture  Name: N/A; Manufacture  SN: N/A; Value: 6.42 KOhm, 1/8W
footprint RESISTOR_0805 (Chip Resistor, 2-Leads, Body 2,00x1,20mm, IPC Medium Density)
pins: 1, 2

## 00080564941
designator R?, comment 6.49 MOhm, 1/8W
RES, size 0805, 6.49 MOhm, 1/8W; Resistance Tolerance: +/-1%; Resistance: 6.49 MOhm; Size: 0805; Rated Power: 1/8 W; Supplier 1 Name: Mouser; Supplier 1 SN: N/A; Supplier 1 URL: N/A; Supplier 2 Name: Digi-Key; Supplier 2 SN: 311-6.49MCRTR-ND; Supplier 2 URL: https://www.digikey.com/en/products/detail/yageo/RC0805FR-076M49L/731008; Mounting Technology: SMT; Supplier 3 Name: Thegioiic; Supplier 3 SN: N/A; Supplier 3 URL: N/A; Datasheet: N/A; Manufacture  Name: N/A; Manufacture  SN: N/A; Value: 6.49 MOhm, 1/8W
footprint RESISTOR_0805 (Chip Resistor, 2-Leads, Body 2,00x1,20mm, IPC Medium Density)
pins: 1, 2

## 00080571521
designator R?, comment 71.5 KOhm, 1/8W
RES, size 0805, 71.5 KOhm, 1/8W; Resistance Tolerance: +/-1%; Resistance: 71.5 KOhm; Size: 0805; Rated Power: 1/8 W; Supplier 1 Name: Mouser; Supplier 1 SN: 603-RT0805FRE0771K5L; Supplier 1 URL: https://www.mouser.vn/ProductDetail/YAGEO/RT0805FRE0771K5L?qs=yNCrj0CQcyJ2X5%252BJTRHZxw%3D%3D; Supplier 2 Name: Digi-Key; Supplier 2 SN: 311-71.5KCRTR-ND; Supplier 2 URL: https://www.digikey.com/en/products/detail/yageo/RC0805FR-0771K5L/728125; Mounting Technology: SMT; Supplier 3 Name: Thegioiic; Supplier 3 SN: N/A; Supplier 3 URL: N/A; Datasheet: N/A; Manufacture  Name: N/A; Manufacture  SN: N/A; Value: 71.5 KOhm, 1/8W
footprint RESISTOR_0805 (Chip Resistor, 2-Leads, Body 2,00x1,20mm, IPC Medium Density)
pins: 1, 2

## 00080571541
designator R?, comment 7.15 MOhm, 1/8W
RES, size 0805, 7.15 MOhm, 1/8W; Resistance Tolerance: +/-1%; Resistance: 7.15 MOhm; Size: 0805; Rated Power: 1/8 W; Supplier 1 Name: Mouser; Supplier 1 SN: N/A; Supplier 1 URL: N/A; Supplier 2 Name: Digi-Key; Supplier 2 SN: 311-7.15MCRTR-ND; Supplier 2 URL: https://www.digikey.com/en/products/detail/yageo/RC0805FR-077M15L/728111; Mounting Technology: SMT; Supplier 3 Name: Thegioiic; Supplier 3 SN: N/A; Supplier 3 URL: N/A; Datasheet: N/A; Manufacture  Name: N/A; Manufacture  SN: N/A; Value: 7.15 MOhm, 1/8W
footprint RESISTOR_0805 (Chip Resistor, 2-Leads, Body 2,00x1,20mm, IPC Medium Density)
pins: 1, 2

## 00080573211
designator R?, comment 7.32 KOhm, 1/8W
RES, size 0805, 7.32 KOhm, 1/8W; Resistance Tolerance: +/-1%; Resistance: 7.32 KOhm; Size: 0805; Rated Power: 1/8 W; Supplier 1 Name: Mouser; Supplier 1 SN: 603-RT0805FRE077K32L; Supplier 1 URL: https://www.mouser.vn/ProductDetail/YAGEO/RT0805FRE077K32L?qs=yNCrj0CQcyL5VeJfozhHUw%3D%3D; Supplier 2 Name: Digi-Key; Supplier 2 SN: 311-7.32KCRTR-ND; Supplier 2 URL: https://www.digikey.com/en/products/detail/yageo/RC0805FR-077K32L/728113; Mounting Technology: SMT; Supplier 3 Name: Thegioiic; Supplier 3 SN: N/A; Supplier 3 URL: N/A; Datasheet: N/A; Manufacture  Name: N/A; Manufacture  SN: N/A; Value: 7.32 KOhm, 1/8W
footprint RESISTOR_0805 (Chip Resistor, 2-Leads, Body 2,00x1,20mm, IPC Medium Density)
pins: 1, 2

## 00080574101
designator R?, comment 741 Ohm, 1/8W
RES, size 0805, 741 Ohm, 1/8W; Resistance: 741 Ohm; Resistance Tolerance: +/-1%; Size: 0805; Rated Power: 1/8 W; Supplier 1 Name: Mouser; Supplier 1 SN: N/A; Supplier 1 URL: N/A; Supplier 2 Name: Digi-Key; Supplier 2 SN: 2019-RN73R2ATTD7410F100TR-ND; Supplier 2 URL: https://www.digikey.com/en/products/detail/koa-speer-electronics-inc/RN73R2ATTD7410F100/10036662; Mounting Technology: SMT; Supplier 3 Name: Thegioiic; Supplier 3 SN: N/A; Supplier 3 URL: N/A; Datasheet: N/A; Manufacture  Name: N/A; Manufacture  SN: N/A; Value: 741 Ohm, 1/8W
footprint RESISTOR_0805 (Chip Resistor, 2-Leads, Body 2,00x1,20mm, IPC Medium Density)
pins: 1, 2

## 00080582541
designator R?, comment 8.25 MOhm, 1/8W
RES, size 0805, 8.25 MOhm, 1/8W; Resistance Tolerance: +/-1%; Resistance: 8.25 MOhm; Size: 0805; Rated Power: 1/8 W; Supplier 1 Name: Mouser; Supplier 1 SN: N/A; Supplier 1 URL: N/A; Supplier 2 Name: Digi-Key; Supplier 2 SN: 311-8.25MCRTR-ND; Supplier 2 URL: https://www.digikey.com/en/products/detail/yageo/RC0805FR-078M25L/728150; Mounting Technology: SMT; Supplier 3 Name: Thegioiic; Supplier 3 SN: N/A; Supplier 3 URL: N/A; Datasheet: N/A; Manufacture  Name: N/A; Manufacture  SN: N/A; Value: 8.25 MOhm, 1/8W
footprint RESISTOR_0805 (Chip Resistor, 2-Leads, Body 2,00x1,20mm, IPC Medium Density)
pins: 1, 2

## 00080584541
designator R?, comment 8.45 MOhm, 1/8W
RES, size 0805, 8.45 MOhm, 1/8W; Resistance Tolerance: +/-1%; Resistance: 8.45 MOhm; Size: 0805; Rated Power: 1/8 W; Supplier 1 Name: Mouser; Supplier 1 SN: N/A; Supplier 1 URL: N/A; Supplier 2 Name: Digi-Key; Supplier 2 SN: 311-8.45MCRTR-ND; Supplier 2 URL: https://www.digikey.com/en/products/detail/yageo/RC0805FR-078M45L/728153; Mounting Technology: SMT; Supplier 3 Name: Thegioiic; Supplier 3 SN: N/A; Supplier 3 URL: N/A; Datasheet: N/A; Manufacture  Name: N/A; Manufacture  SN: N/A; Value: 8.45 MOhm, 1/8W
footprint RESISTOR_0805 (Chip Resistor, 2-Leads, Body 2,00x1,20mm, IPC Medium Density)
pins: 1, 2